# Altium integrated library stm.IntLib: 3 symbols
Pins are listed as number, name and electrical type; pins without a type are passive.

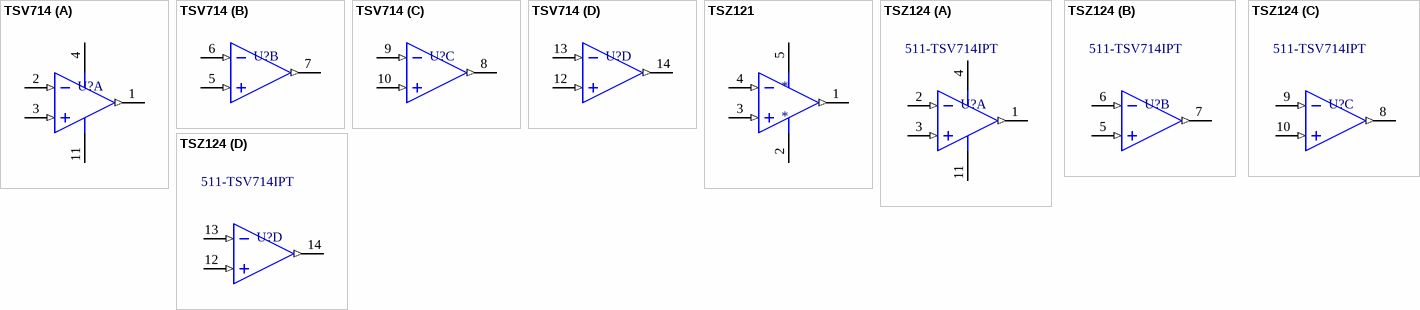
[diagram p0: symbols TSV714 to TSZ124]

## TSV714
designator U?
footprint TSOP65P640X120-14M (TSOP, 14-Leads, Body 5,00x4,40mm, Pitch 0,65mm, IPC Low Density)
part A pins: 1 OUT1 (out), 2 IN1- (in), 3 IN1+ (in), 4 V+ (power), 11 V- (power)
part B pins: 5 IN2+ (in), 6 IN2- (in), 7 OUT2 (out)
part C pins: 8 OUT3 (out), 9 IN3- (in), 10 IN3+ (in)
part D pins: 12 IN4+ (in), 13 IN4- (in), 14 OUT4 (out)

## TSZ121
designator *
footprint SOT95P280X145-5M (SOT23, 5-Leads, Body 2,90x2,80mm, Pitch 0,95mm, IPC Low Density)
pins: 1 OUT1 (out), 2 V- (power), 3 IN1+ (in), 4 IN1- (in), 5 V+ (power)

## TSZ124
designator U?  Supplier Part Number 1: 511-TSV714IPT  (hidden comment: TSZ124)
Supplier 1: Mouser
footprint TSOP65P640X120-14M (TSOP, 14-Leads, Body 5,00x4,40mm, Pitch 0,65mm, IPC Low Density)
part A pins: 1 OUT1 (out), 2 IN1- (in), 3 IN1+ (in), 4 V+ (power), 11 V- (power)
part B pins: 5 IN2+ (in), 6 IN2- (in), 7 OUT2 (out)
part C pins: 8 OUT3 (out), 9 IN3- (in), 10 IN3+ (in)
part D pins: 12 IN4+ (in), 13 IN4- (in), 14 OUT4 (out)